# Altium schematic symbol library LT8304ES8E.Schlib: 1 symbol
Pins are listed as number, name and electrical type; pins without a type are passive.

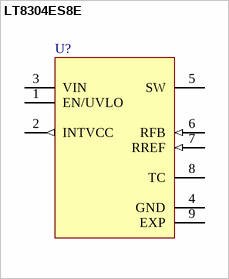
[diagram p0: symbol LT8304ES8E]

## LT8304ES8E
designator U?
Conv DC-DC 3V to 100V Step Down Single-Out 2A 24W Micropower Automotive 8-Pin SOIC N EP Tube
pins: 1 EN/UVLO (power), 2 INTVCC (out), 3 VIN (power), 4 GND (power), 5 SW (power), 6 RFB (in), 7 RREF (in), 8 TC, 9 EXP (power)